# EAGLE library part MSS-22C02 (library Xmaker)
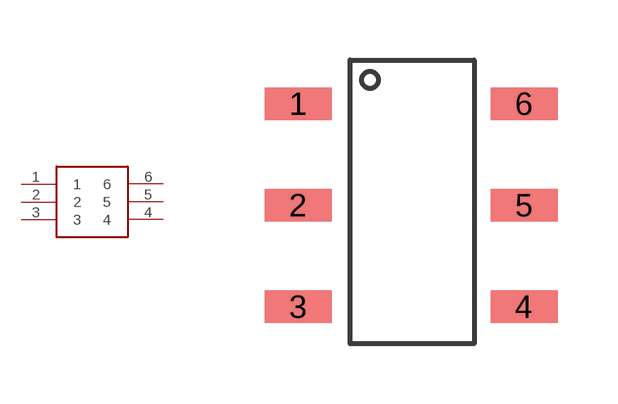
[diagram p2: symbol with the pads of MSS-22C02; footprint MSS-22C02]

Designator prefix -

## MSS-22C02  [MSS-22C02]
1  1
2  2
3  3
4  4
5  5
6  6

## Footprint MSS-22C02 (pad centres in mm)
smd 1.676 x 0.813: 1 0,0; 2 0,-2.54; 3 0,-5.08; 4 5.65,-5.08; 5 5.65,-2.54; 6 5.65,0